# Altium footprint library temperatureSensor.PcbLib: 20 footprints (part 2 of 2)
Each footprint in its own frame and in the unit in brackets; x right, y up, seen from the top. Pads: shape width x height; smd on the part's side, far side on the other; paste and mask are expansions set on the pad; w line width, h text height; cw(c..) or ccw(c..) is an arc to the next point about the centre after c.
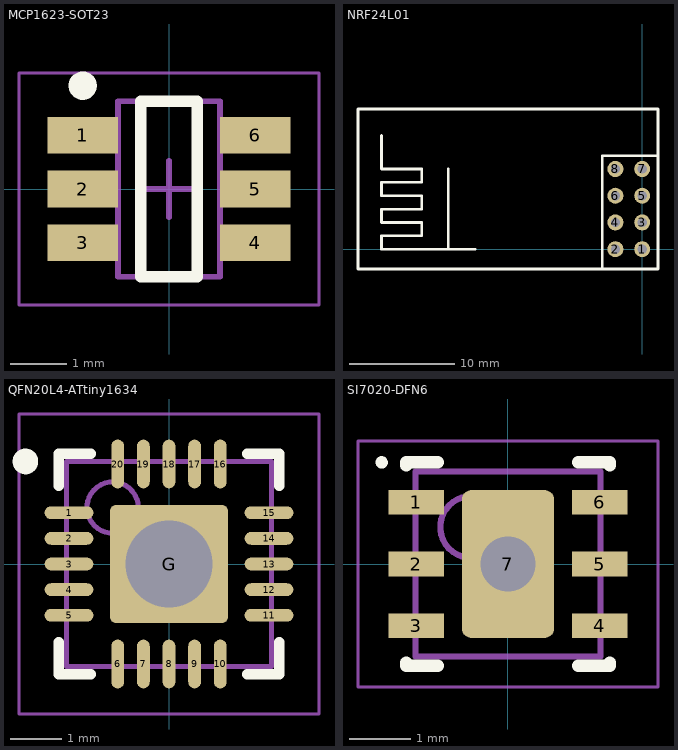
[diagram p1: the footprints below, top view; thin cyan lines are the x and y axes]

## MCP1623-SOT23 [mm] "SOT23, 6-Leads, Body 2,90x2,70mm, Pitch 0,95mm, IPC Low Density"
height 1.45
pads (6):
  rect 1.25x0.65 smd: 1(-1.525,0.95) 2(-1.525,0) 3(-1.525,-0.95) 4(1.525,-0.95) 5(1.525,0) 6(1.525,0.95)
Top Overlay:
  circle w0.25: c-1.525,1.825 r0.125
  lines w0.2: -0.5,-1.55 0.5,-1.55 0.5,1.55 -0.5,1.55 -0.5,-1.55
Mechanical 13:
  lines w0.1: -0.9,-1.55 -0.9,1.55 0.9,1.55 0.9,-1.55 -0.9,-1.55
Mechanical 15:
  lines w0.05: -2.65,-2.05 -2.65,2.05 2.65,2.05 2.65,-2.05 -2.65,-2.05
  lines w0.1: -0.5,0 0.5,0 ; 0,-0.5 0,0.5
3D body "MCP1623-SOT23.step": height 1.45, standoff 0, extent -1.7,-1.55 1.7,1.55

## NRF24L01 [mil] "RF module"
pads (8):
  round 60 hole 35: 1(0,0) 2(-100,0) 3(0,100) 4(-100,100) 5(0,200) 6(-100,200) 7(0,300) 8(-100,300)
Top Overlay:
  lines w10: -975,425 -975,300 -825,300 -825,250 -975,250 -975,200 -825,200 -825,150 -975,150 -975,100 -825,100 -825,50 -975,50 -975,0 -625,0 ; -725,0 -725,300 ; -150,-74.02 -150,350 59.06,350 ; -1062.99,-74.02 -1062.99,524.41 59.06,524.41 59.06,-74.02 -1062.99,-74.02
3D body: height 78.74, standoff 0, extent -1062.99,-74.02 59.06,524.41

## QFN20L4-ATtiny1634 [mm] "QFN, 20-Leads, Body 4,00x4,00mm, Pitch 0,50mm, Thermal Pad 2,60x2,60mm, IPC Low Density"
height 0.8
pads (21):
  oval 0.95x0.25 smd: 1(-1.95,1) 2(-1.95,0.5) 3(-1.95,0) 4(-1.95,-0.5) 5(-1.95,-1) 11(1.95,-1) 12(1.95,-0.5) 13(1.95,0) 14(1.95,0.5) 15(1.95,1)
  oval 0.25x0.95 smd: 6(-1,-1.95) 7(-0.5,-1.95) 8(0,-1.95) 9(0.5,-1.95) 10(1,-1.95) 16(1,1.95) 17(0.5,1.95) 18(0,1.95) 19(-0.5,1.95) 20(-1,1.95)
  rrect10% 2.3x2.3 hole 1.7: G(0,0)
Top Overlay:
  circle w0.25: c-2.8,2 r0.125
  lines w0.2: -2.15,-1.525 -2.15,-2.15 -1.525,-2.15 ; -2.15,1.525 -2.15,2.15 -1.525,2.15 ; 1.525,-2.15 2.15,-2.15 2.15,-1.525 ; 1.525,2.15 2.15,2.15 2.15,1.525
Mechanical 13:
  circle w0.1: c-1.1,1.1 r0.5
  lines w0.1: -2,-2 2,-2 2,2 -2,2 -2,-2
Mechanical 15:
  lines w0.05: -2.925,-2.925 2.925,-2.925 2.925,2.925 -2.925,2.925 -2.925,-2.925
  lines w0.1: -0.5,0 0.5,0 ; 0,-0.5 0,0.5
3D body "QFN20L4-ATtiny1634.step": height 0.8, standoff 0, extent -2.01,-2.01 2.01,2.01

## SI7020-DFN6 [mm] "SON, 6-Leads, Body 3,00x3,00mm, Pitch 1,00mm, Thermal Pad 2,40x1,50mm, IPC Low Density"
height 1.21
pads (7):
  rect 0.9x0.4 smd: 1(-1.49,1) 2(-1.49,0) 3(-1.49,-1) 4(1.49,-1) 5(1.49,0) 6(1.49,1)
  rrect20% 1.5x2.4 / inner round 1.6 / far side round 1.6 hole 0.9: 7(0,0)
Top Overlay:
  circle w0.1: c-2.05,1.65 r0.05
  lines w0.2: -1.65,-1.6 -1.65,-1.65 -1.14,-1.65 ; -1.65,1.6 -1.65,1.65 -1.14,1.65 ; 1.14,-1.65 1.65,-1.65 1.65,-1.6 ; 1.14,1.65 1.65,1.65 1.65,1.6
Mechanical 13:
  circle w0.1: c-0.6,0.6 r0.5
  lines w0.1: -1.5,-1.5 1.5,-1.5 1.5,1.5 -1.5,1.5 -1.5,-1.5
Mechanical 15:
  lines w0.05: -2.435,-2 2.435,-2 2.435,2 -2.435,2 -2.435,-2
  lines w0.1: -0.5,0 0.5,0 ; 0,-0.5 0,0.5
3D body "SI7020-DFN6.step": height 1.21, standoff 0, extent -1.5,-1.5 1.5,1.5